# Altium footprint library PBD-6_1.PcbLib: 1 footprints
Each footprint in its own frame and in the unit in brackets; x right, y up, seen from the top. Pads: shape width x height; smd on the part's side, far side on the other; paste and mask are expansions set on the pad; w line width, h text height; cw(c..) or ccw(c..) is an arc to the next point about the centre after c.
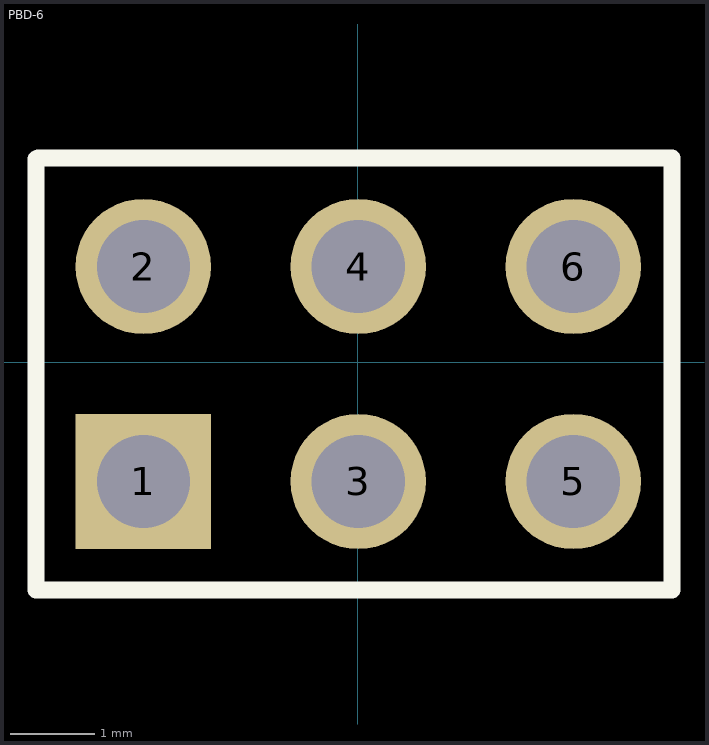
[diagram p0: the footprint, top view; thin cyan lines are the x and y axes]

## PBD-6 [mm]
pads (6):
  rect 1.6x1.6 hole 1.1: 1(-2.535,-1.409)
  round 1.6 hole 1.1: 2(-2.535,1.131) 3(0.005,-1.409) 4(0.005,1.131) 5(2.545,-1.409) 6(2.545,1.131)
Top Overlay:
  lines w0.2: -3.805,2.401 -3.805,-2.692 3.688,-2.692 ; -3.78,2.414 3.713,2.414 ; 3.709,-2.692 3.709,2.401
3D body "PBD_2.54_6.SLDPRT": height 8.4, standoff -2.29, extent -3.986,-2.663 3.884,2.337